# Altium schematic symbol library NRF5340-QKAA-R7.SchLib: 1 symbol
Pins are listed as number, name and electrical type; pins without a type are passive.

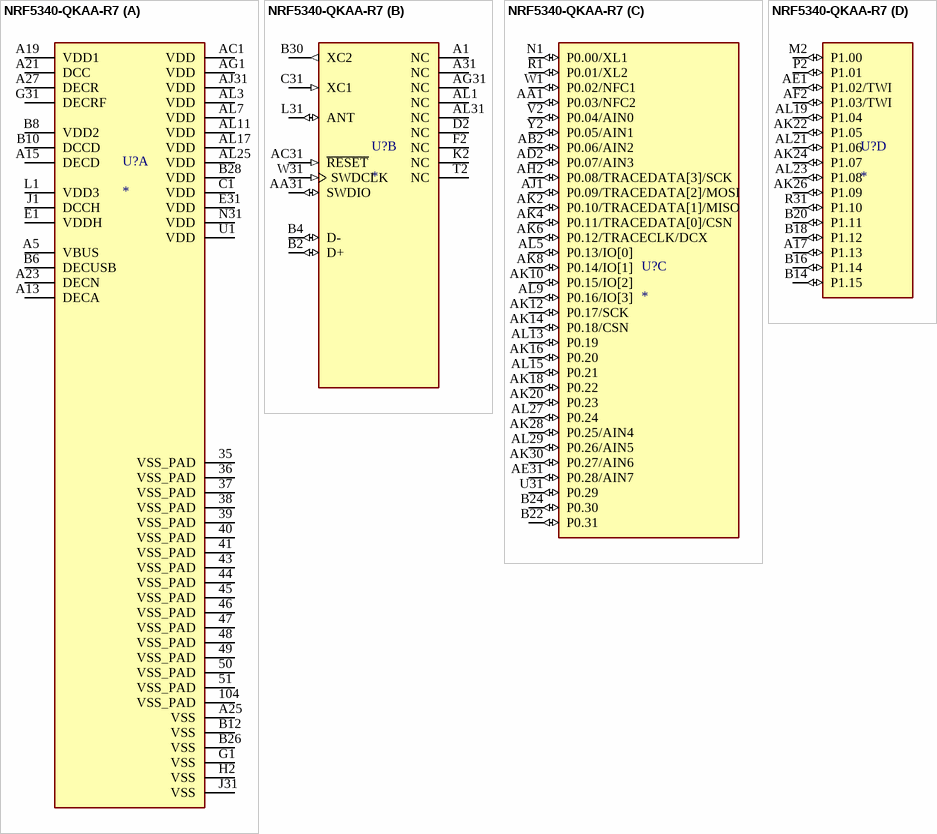
[diagram p0: symbol NRF5340-QKAA-R7]

## NRF5340-QKAA-R7
designator U?
RF System on a Chip - SoC Dual-core Bluetooth 5.2 SoC supporting Bluetooth Low Energy, Bluetooth mesh, NFC, Thread, and Zigbee; MP: NRF5340-QKAA-R7; MF: Nordic Semiconductor ASA; Purchase-URL: https://pricing.snapeda.com/search/part/NRF5340-QKAA-R7/?ref=eda; Package: None; Check_prices: https://www.snapeda.com/parts/NRF5340-QKAA-R7/Nordic+Semiconductor+ASA/view-part/?ref=eda; Price: None; SnapEDA_Link: https://www.snapeda.com/parts/NRF5340-QKAA-R7/Nordic+Semiconductor+ASA/view-part/?ref=snap; Availability: In Stock; Value: *
footprint XCVR_NRF5340-QKAA-R7
part A pins: 35 VSS_PAD (power), 36 VSS_PAD (power), 37 VSS_PAD (power), 38 VSS_PAD (power), 39 VSS_PAD (power), 40 VSS_PAD (power), 41 VSS_PAD (power), 43 VSS_PAD (power), 44 VSS_PAD (power), 45 VSS_PAD (power), 46 VSS_PAD (power), 47 VSS_PAD (power), 48 VSS_PAD (power), 49 VSS_PAD (power), 50 VSS_PAD (power), 51 VSS_PAD (power), 104 VSS_PAD (power), A5 VBUS (power), A13 DECA (power), A15 DECD (power), A19 VDD1 (power), A21 DCC (power), A23 DECN (power), A25 VSS (power), A27 DECR (power), AC1 VDD (power), AG1 VDD (power), AJ31 VDD (power), AL3 VDD (power), AL7 VDD (power), AL11 VDD (power), AL17 VDD (power), AL25 VDD (power), B6 DECUSB (power), B8 VDD2 (power), B10 DCCD (power), B12 VSS (power), B26 VSS (power), B28 VDD (power), C1 VDD (power), E1 VDDH (power), E31 VDD (power), G1 VSS (power), G31 DECRF (power), H2 VSS (power), J1 DCCH (power), J31 VSS (power), L1 VDD3 (power), N31 VDD (power), U1 VDD (power)
part B pins: A1 NC, A31 NC, AA31 SWDIO (io), AC31 ~{RESET} (in), AG31 NC, AL1 NC, AL31 NC, B2 D+ (io), B4 D- (io), B30 XC2 (out), C31 XC1 (in), D2 NC, F2 NC, K2 NC, L31 ANT (io), T2 NC, W31 SWDCLK (in)
part C pins: AA1 P0.03/NFC2 (io), AB2 P0.06/AIN2 (io), AD2 P0.07/AIN3 (io), AE31 P0.28/AIN7 (io), AH2 P0.08/TRACEDATA[3]/SCK (io), AJ1 P0.09/TRACEDATA[2]/MOSI (io), AK2 P0.10/TRACEDATA[1]/MISO (io), AK4 P0.11/TRACEDATA[0]/CSN (io), AK6 P0.12/TRACECLK/DCX (io), AK8 P0.14/IO[1] (io), AK10 P0.15/IO[2] (io), AK12 P0.17/SCK (io), AK14 P0.18/CSN (io), AK16 P0.20 (io), AK18 P0.22 (io), AK20 P0.23 (io), AK28 P0.25/AIN4 (io), AK30 P0.27/AIN6 (io), AL5 P0.13/IO[0] (io), AL9 P0.16/IO[3] (io), AL13 P0.19 (io), AL15 P0.21 (io), AL27 P0.24 (io), AL29 P0.26/AIN5 (io), B22 P0.31 (io), B24 P0.30 (io), N1 P0.00/XL1 (io), R1 P0.01/XL2 (io), U31 P0.29 (io), V2 P0.04/AIN0 (io), W1 P0.02/NFC1 (io), Y2 P0.05/AIN1 (io)
part D pins: A17 P1.13 (io), AE1 P1.02/TWI (io), AF2 P1.03/TWI (io), AK22 P1.05 (io), AK24 P1.07 (io), AK26 P1.09 (io), AL19 P1.04 (io), AL21 P1.06 (io), AL23 P1.08 (io), B14 P1.15 (io), B16 P1.14 (io), B18 P1.12 (io), B20 P1.11 (io), M2 P1.00 (io), P2 P1.01 (io), R31 P1.10 (io)